# Altium schematic symbol library CONNECTORS.SchLib: 71 symbols
Pins are listed as number, name and electrical type; pins without a type are passive.

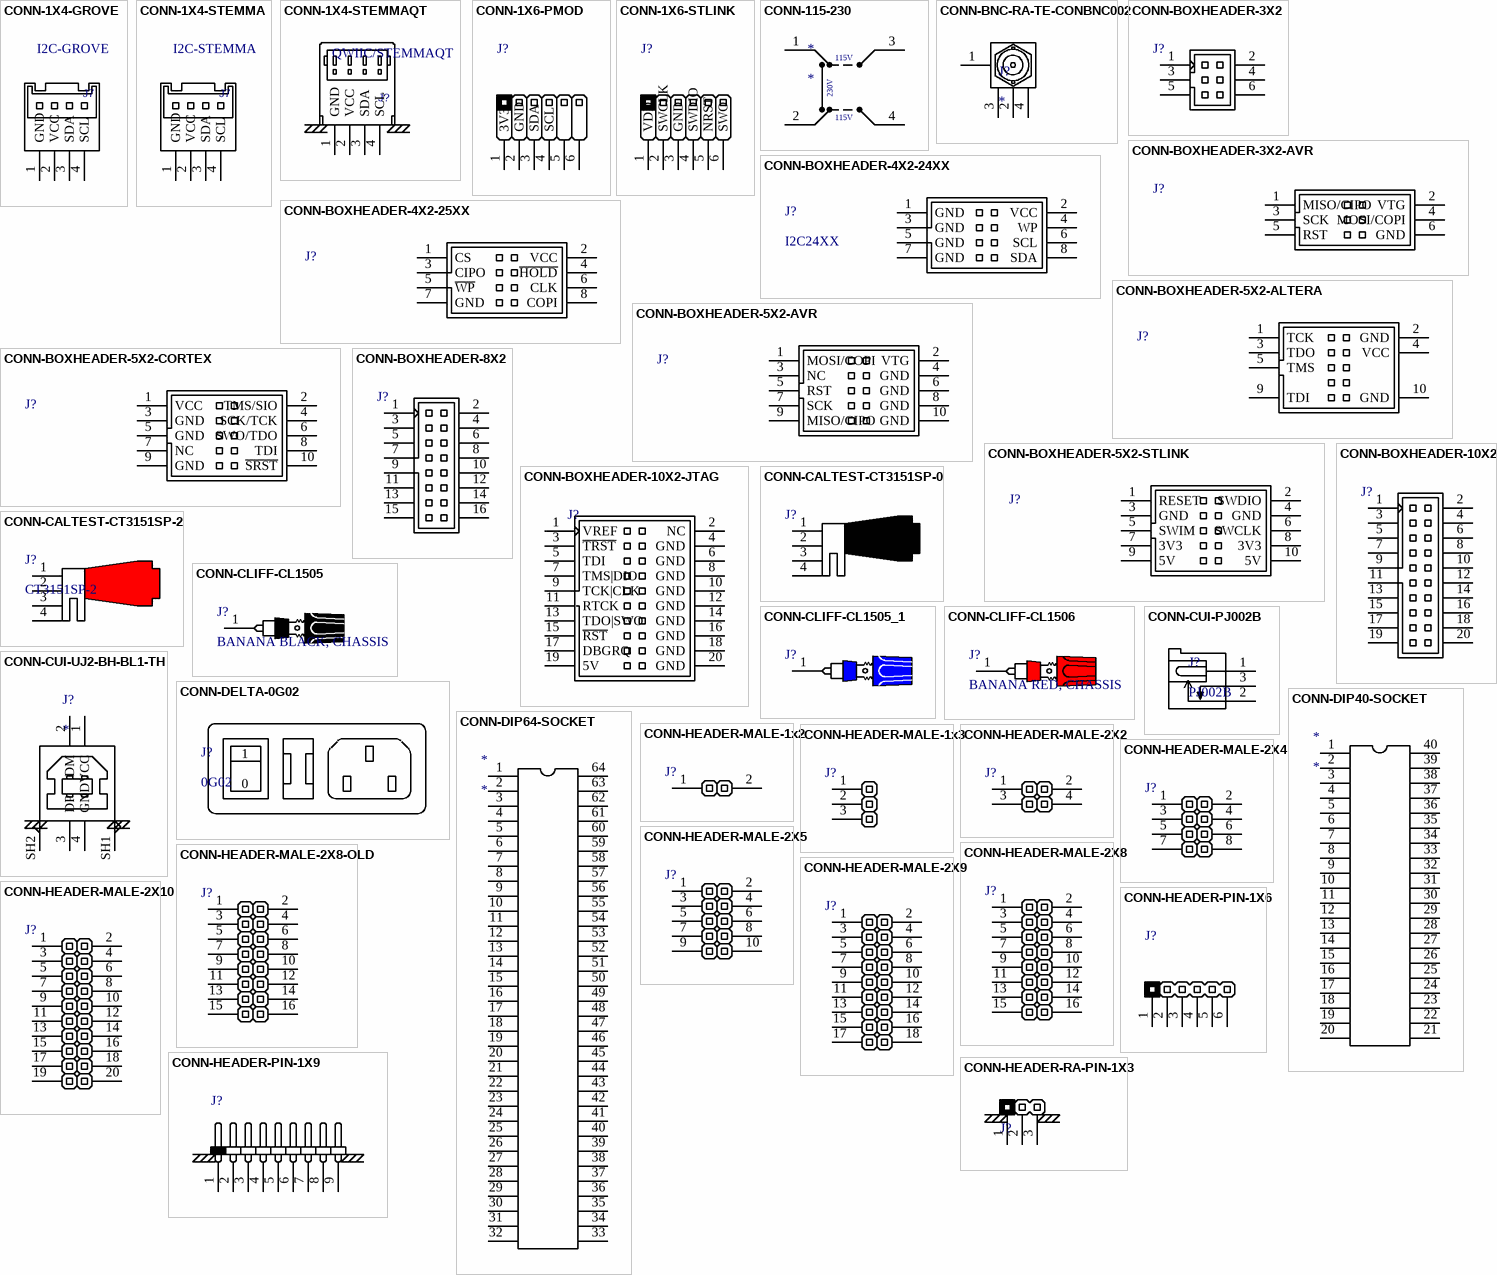
[diagram p0: symbols CONN-1X4-GROVE to CONN-HEADER-RA-PIN-1X3]

## CONN-1X4-GROVE
designator J7, comment I2C-GROVE
P/N: SM04B-SRSS-TB(LF)(SN); LCSC: C160404
footprint JST_SH_SM04B-SRSS-TB_1x04-1MP_P1.00mm_Horizontal
pins: 1 GND, 2 VCC, 3 SDA, 4 SCL

## CONN-1X4-STEMMA
designator J7, comment I2C-STEMMA
P/N: SM04B-SRSS-TB(LF)(SN); LCSC: C160404
footprint JST_SH_SM04B-SRSS-TB_1x04-1MP_P1.00mm_Horizontal
pins: 1 GND, 2 VCC, 3 SDA, 4 SCL

## CONN-1X4-STEMMAQT
designator J?, comment QWIIC/STEMMAQT
P/N: SM04B-SRSS-TB(LF)(SN); LCSC: C160404
footprint JST_SH_SM04B-SRSS-TB_1x04-1MP_P1.00mm_Horizontal
pins: 1 GND, 2 VCC, 3 SDA, 4 SCL

## CONN-1X6-PMOD
designator J?, comment PMOD  (value not drawn)
CONN,PINHEADER,1X6,2.45MM,VERT,GOLD
footprint HEADER-1X6
pins: 1 3V3, 2 GND, 3 SDA, 4 SCL, 5, 6

## CONN-1X6-STLINK
designator J?, comment STLINK  (value not drawn)
CONN,PINHEADER,1X6,2.45MM,VERT,GOLD
footprint HEADER-1X6
pins: 1 VDD, 2 SWCLK, 3 GND, 4 SWDIO, 5 NRST, 6 SWO

## CONN-115-230
designator *
pins: 1, 2, 3, 4
text: 115V; 230V

## CONN-BNC-RA-TE-CONBNC002
designator J?
footprint CONN-BNC-RA-TE-CONBNC002
pins: 1, 2, 3, 4

## CONN-BOXHEADER-3X2
designator J?, comment BOXHEADER-3X2  (value not drawn)
pins: 1 +, 2 -, 3 -, 4 -, 5 -, 6 -

## CONN-BOXHEADER-3X2-AVR
designator J?, comment AVR6  (value not drawn)
pins: 1 MISO/CIPO, 2 VTG, 3 SCK, 4 MOSI/COPI, 5 RST, 6 GND

## CONN-BOXHEADER-4X2-24XX
designator J?, comment I2C24XX
pins: 1 GND, 2 VCC, 3 GND, 4 WP, 5 GND, 6 SCL, 7 GND, 8 SDA

## CONN-BOXHEADER-4X2-25XX
designator J?, comment SPI25CXX  (value not drawn)
pins: 1 CS, 2 VCC, 3 CIPO, 4 ~{HOLD}, 5 ~{WP}, 6 CLK, 7 GND, 8 COPI

## CONN-BOXHEADER-5X2-ALTERA
designator J?, comment ALTERA  (value not drawn)
CONN,BOXHEADER,2X5,ALTERA JTAG PINOUT
footprint CONNECTOR GENERIC-BOXHEADER-2X5
pins: 1 TCK, 2 GND, 3 TDO, 4 VCC, 5 TMS, 9 TDI, 10 GND

## CONN-BOXHEADER-5X2-AVR
designator J?, comment AVR10  (value not drawn)
pins: 1 MOSI/COPI, 2 VTG, 3 NC, 4 GND, 5 RST, 6 GND, 7 SCK, 8 GND, 9 MISO/CIPO, 10 GND

## CONN-BOXHEADER-5X2-CORTEX
designator J?, comment CORTEX  (value not drawn)
pins: 1 VCC, 2 TMS/SIO, 3 GND, 4 SCK/TCK, 5 GND, 6 SWO/TDO, 7 NC, 8 TDI, 9 GND, 10 ~{SRST}

## CONN-BOXHEADER-5X2-STLINK
designator J?, comment STLINK  (value not drawn)
footprint CONNECTOR GENERIC-BOXHEADER-2X5
pins: 1 RESET, 2 SWDIO, 3 GND, 4 GND, 5 SWIM, 6 SWCLK, 7 3V3, 8 3V3, 9 5V, 10 5V

## CONN-BOXHEADER-8X2
designator J?, comment BOXHEADER-8X2  (value not drawn)
LCSC: C429961
footprint CONNECTOR GENERIC-BOXHEADER-2X10
pins: 1 +, 2 -, 3 -, 4 -, 5 -, 6 -, 7 -, 8 -, 9 -, 10 -, 11 -, 12 -, 13 -, 14 -, 15 -, 16 -

## CONN-BOXHEADER-10X2
designator J?, comment BOXHEADER-10X2  (value not drawn)
LCSC: C429961
footprint CONNECTOR GENERIC-BOXHEADER-2X10
pins: 1 +, 2 -, 3 -, 4 -, 5 -, 6 -, 7 -, 8 -, 9 -, 10 -, 11 -, 12 -, 13 -, 14 -, 15 -, 16 -, 17 -, 18 -, 19 -, 20 -

## CONN-BOXHEADER-10X2-JTAG
designator J?, comment BOXHEADER-10X2-JTAG  (value not drawn)
pins: 1 VREF, 2 NC, 3 ~{TRST}, 4 GND, 5 TDI, 6 GND, 7 TMS|DIO, 8 GND, 9 TCK|CLK, 10 GND, 11 RTCK, 12 GND, 13 TDO|SWO, 14 GND, 15 ~{RST}, 16 GND, 17 DBGRQ, 18 GND, 19 5V, 20 GND

## CONN-CALTEST-CT3151SP-0
designator J?, comment CT3151SP-0  (value not drawn)
CONNECTOR,BANANA SAFETY SOCKET,BLACK,CALTEST, CT3151SP-0; Manufacturer 1: CALTEST; Manufacturer Part Number 1: CT3151SP-0
footprint CONN-CALTEST-CT3151SP-0
pins: 1, 2, 3, 4

## CONN-CALTEST-CT3151SP-2
designator J?, comment CT3151SP-2
CONNECTOR,BANANA SAFETY SOCKET,RED,CALTEST, CT3151SP-2; Manufacturer 1: CALTEST; Manufacturer Part Number 1: CT3151SP-2
footprint CONN-CALTEST-CT3151SP-2
pins: 1, 2, 3, 4

## CONN-CLIFF-CL1505
designator J?, comment BANANA BLACK, CHASSIS
CONNECTOR,BANANA BINDING POST,BLACK,CLIFF CL15XX; Manufacturer 1: CLIFF ELECTRONICS; Manufacturer Part Number 1: CL1505; DIGIKEY: 4654-CL1505-ND
pins: 1

## CONN-CLIFF-CL1505_1
designator J?, comment CONNECTOR,BANANA,BLUE,CHASSIS,CLIFF  (value not drawn)
pins: 1

## CONN-CLIFF-CL1506
designator J?, comment BANANA RED, CHASSIS
CONNECTOR,BANANA BINDING POST,RED,CLIFF CL15XX; Manufacturer 1: CLIFF ELECTRONICS; Manufacturer Part Number 1: CL1506; DIGIKEY: 4654-CL1506-ND
pins: 1

## CONN-CUI-PJ002B
designator J?, comment PJ002B
CONN,DCPOWER,BARREL,CUI,PJ002B; Manufacturer 1: XKB Connection; Manufacturer Part Number 1: DC-005-5A-2.5; LCSC: C381115
footprint CONN-CUI-PJ-002B (CONN,BARREL JACK)
pins: 1, 2, 3

## CONN-CUI-UJ2-BH-BL1-TH
designator J?
CONN,USB2.0,B,RA,BLUE; LCSC: C720549
footprint CONN-CUI-UJ2-BH-BL1-TH
pins: 1 VCC, 2 DM, 3 DP, 4 GND, SH1 NO, SH2 NO

## CONN-DELTA-0G02
designator J?, comment 0G02  (mechanical)
CONN,POWER,IEC,SWITCH,FUSE ASSEMBLY,PANELMOUNT
text: 1; 0

## CONN-DIP40-SOCKET
designator *  (no BOM)
pins: 1, 2, 3, 4, 5, 6, 7, 8, 9, 10, 11, 12, 13, 14, 15, 16, 17, 18, 19, 20, 21, 22, 23, 24, 25, 26, 27, 28, 29, 30, 31, 32, 33, 34, 35, 36, 37, 38, 39, 40

## CONN-DIP64-SOCKET
designator *  (no BOM)
footprint CONN-DIP64-SOCKET
pins: 1, 2, 3, 4, 5, 6, 7, 8, 9, 10, 11, 12, 13, 14, 15, 16, 17, 18, 19, 20, 21, 22, 23, 24, 25, 26, 27, 28, 29, 30, 31, 32, 33, 34, 35, 36, 37, 38, 39, 40, 41 33, 42 34, 43 35, 44 36, 45 37, 46 38, 47 39, 48 40, 49 33, 50 34, 51 35, 52 36, 53 37, 54 38, 55 39, 56 40, 57 33, 58 34, 59 35, 60 36, 61 37, 62 38, 63 39, 64 40

## CONN-HEADER-MALE-1x2
designator J?  (value not drawn)
CONN,HEADER,1x2,2.54mm; Manufacturer 1: CONNFLY; Manufacturer Part Number 1: DS1021-1x2SF11-B; LCSC: C7430358
footprint HEADER-GENERIC-MALE-1X2
pins: 1 +, 2 -

## CONN-HEADER-MALE-1x3
designator J?, comment BOXHEADER-2X4  (value not drawn)
CONN,HEADER,1x3,2.54mm; LCSC: C429954
footprint HEADER-GENERIC-MALE-1X3
pins: 1 +, 2 -, 3 -

## CONN-HEADER-MALE-2X2
designator J?, comment BOXHEADER-2x2  (value not drawn)
CONN,HEADER,2X2,2.54mm; LCSC: C5383103
footprint CONNECTOR-GENERIC-PINHEADER-2X2 (CONNECTOR GENERIC-PINHEADER-2X2)
pins: 1 +, 2 -, 3 -, 4 -

## CONN-HEADER-MALE-2X4
designator J?, comment BOXHEADER-2X4  (value not drawn)
CONN,HEADER,2X4,2.54mm; LCSC: C42431809
footprint CONNECTOR-GENERIC-PINHEADER-2X4 (CONNECTOR GENERIC-PINHEADER-2X4)
pins: 1 +, 2 -, 3 -, 4 -, 5 -, 6 -, 7 -, 8 -

## CONN-HEADER-MALE-2X5
designator J?, comment BOXHEADER-3X2  (value not drawn)
CONN,HEADER,2X5,2.54mm; LCSC: C42431802
footprint CONNECTOR-GENERIC-PINHEADER-2X5 (CONNECTOR GENERIC-PINHEADER-2X5)
pins: 1 +, 2 -, 3 -, 4 -, 5 -, 6 -, 7 -, 8 -, 9 -, 10 -

## CONN-HEADER-MALE-2X8
designator J?, comment BOXHEADER-3X2  (value not drawn)
CONN,HEADER,2X8,2.54mm; LCSC: C42431826
footprint CONNECTOR-GENERIC-PINHEADER-2X8 (CONNECTOR GENERIC-PINHEADER-2X8)
pins: 1 +, 2 -, 3 -, 4 -, 5 -, 6 -, 7 -, 8 -, 9 -, 10 -, 11 -, 12 -, 13 -, 14 -, 15 -, 16 -

## CONN-HEADER-MALE-2X8-OLD
designator J?, comment BOXHEADER-3X2  (value not drawn)
pins: 1 +, 2 -, 3 -, 4 -, 5 -, 6 -, 7 -, 8 -, 9 -, 10 -, 11 -, 12 -, 13 -, 14 -, 15 -, 16 -

## CONN-HEADER-MALE-2X9
designator J?, comment BOXHEADER-3X2  (value not drawn)
CONN,HEADER,2X9,2.54mm
pins: 1 +, 2 -, 3 -, 4 -, 5 -, 6 -, 7 -, 8 -, 9 -, 10 -, 11 -, 12 -, 13 -, 14 -, 15 -, 16 -, 17 -, 18 -

## CONN-HEADER-MALE-2X10
designator J?, comment BOXHEADER-3X2  (value not drawn)
CONN,HEADER,2X10,2.54mm; LCSC: C5383109
footprint CONNECTOR-GENERIC-PINHEADER-2X10 (CONNECTOR GENERIC-PINHEADER-2X10)
pins: 1 +, 2 -, 3 -, 4 -, 5 -, 6 -, 7 -, 8 -, 9 -, 10 -, 11 -, 12 -, 13 -, 14 -, 15 -, 16 -, 17 -, 18 -, 19 -, 20 -

## CONN-HEADER-PIN-1X6
designator J?  (value not drawn)
CONN,PINHEADER,1X6,2.45MM,VERT,GOLD
footprint HEADER-1X6
pins: 1 +, 2 +, 3 +, 4 +, 5 +, 6 +

## CONN-HEADER-PIN-1X9
designator J?  (value not drawn)
CONN,PINHEADER,1X9,2.45MM,VERT,GOLD
footprint HEADER-1X6
pins: 1 +, 2 +, 3 +, 4 +, 5 +, 6 +, 7 +, 8 +, 9 +

## CONN-HEADER-RA-PIN-1X3
designator J?, comment CONN-HEADER-PIN-1X3-254-RA  (value not drawn)
footprint HEADER-1X3-245-RA
pins: 1 +, 2 +, 3 +

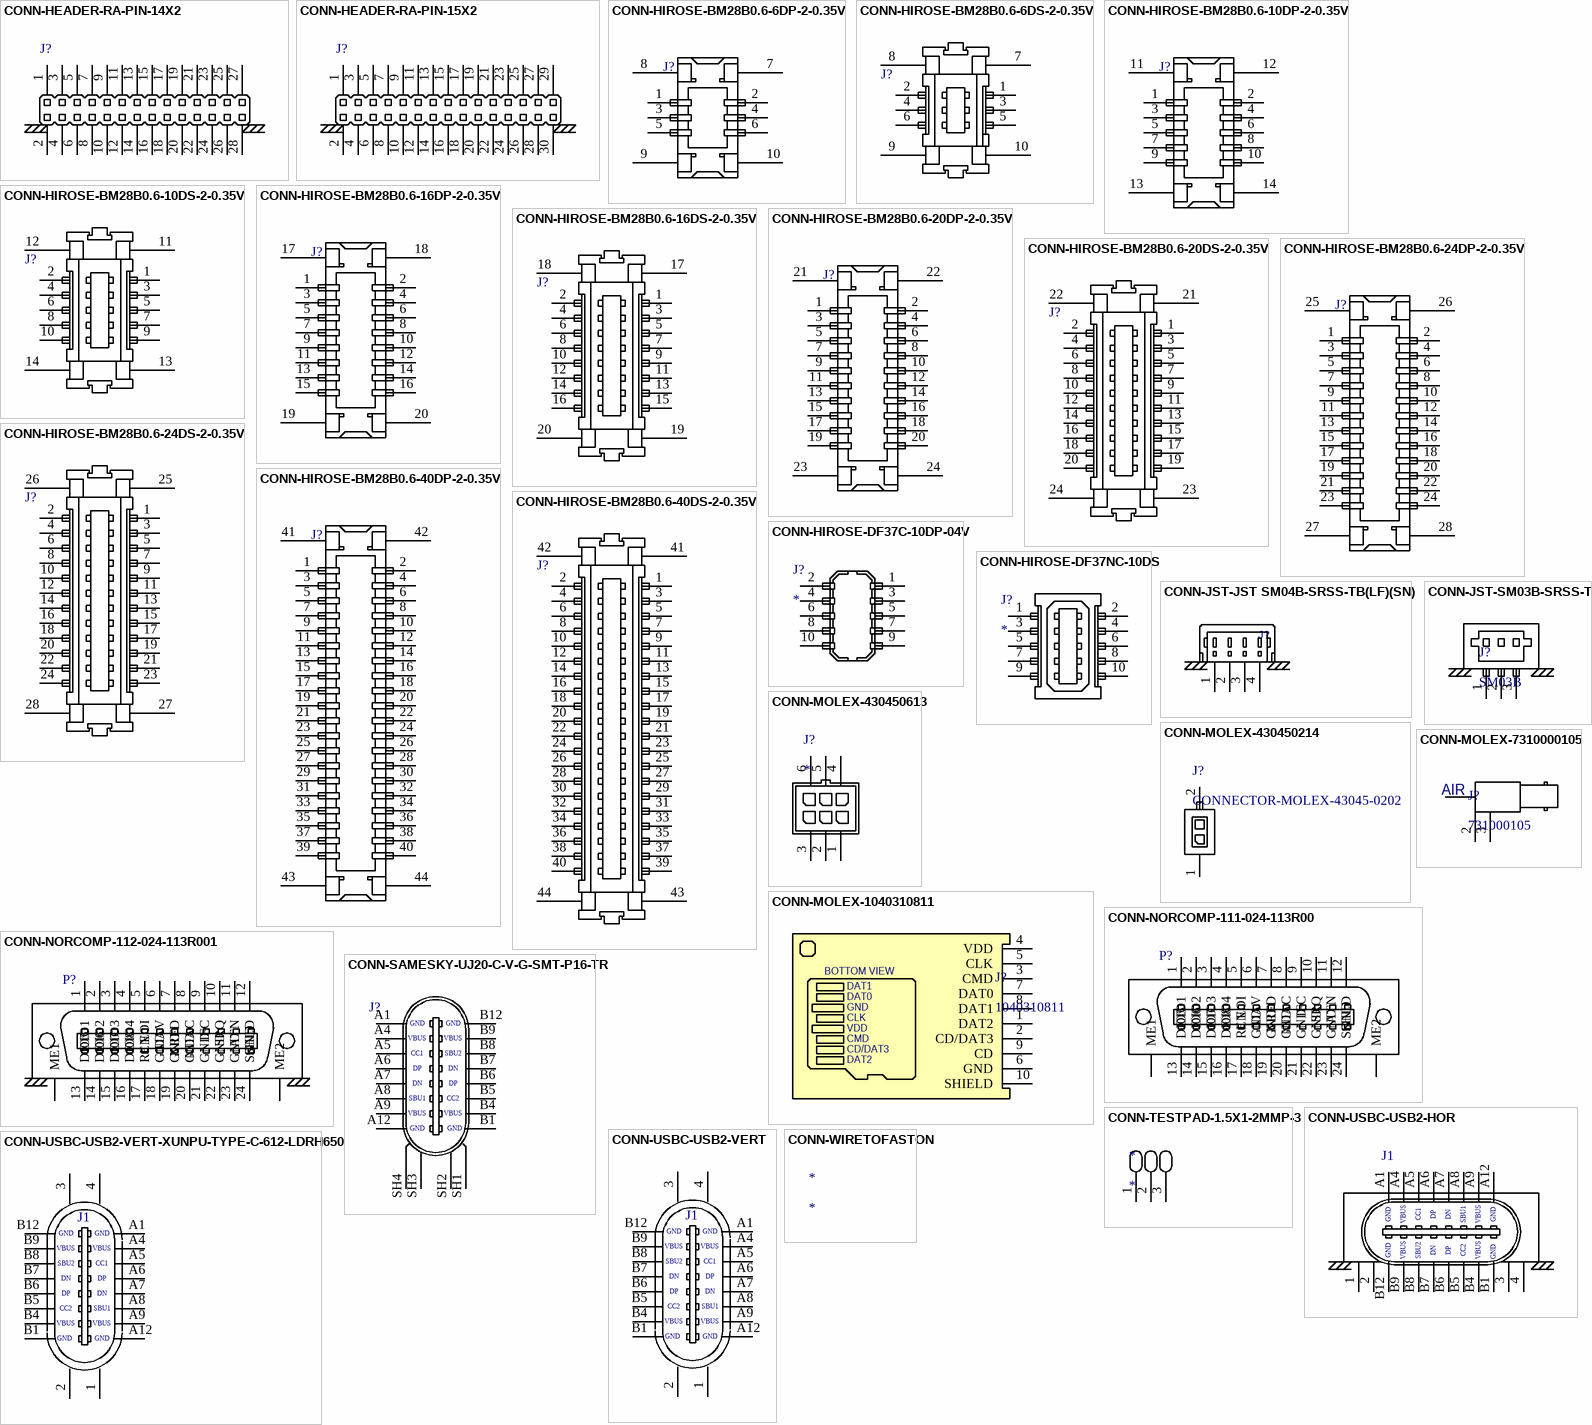
[diagram p1: symbols CONN-HEADER-RA-PIN-14X2 to CONN-WIRETOFASTON]

## CONN-HEADER-RA-PIN-14X2
designator J?  (value not drawn)
footprint HEADER-2X14-RA
pins: 1 +, 2 -, 3 -, 4 -, 5 -, 6 -, 7 +, 8 -, 9 -, 10 -, 11 -, 12 -, 13 +, 14 -, 15 -, 16 -, 17 -, 18 -, 19 +, 20 -, 21 -, 22 -, 23 -, 24 -, 25 +, 26 -, 27 -, 28 -

## CONN-HEADER-RA-PIN-15X2
designator J?  (value not drawn)
footprint HEADER-2X14-RA
pins: 1 +, 2 -, 3 -, 4 -, 5 -, 6 -, 7 +, 8 -, 9 -, 10 -, 11 -, 12 -, 13 +, 14 -, 15 -, 16 -, 17 -, 18 -, 19 +, 20 -, 21 -, 22 -, 23 -, 24 -, 25 +, 26 -, 27 -, 28 -, 29 -, 30 -

## CONN-HIROSE-BM28B0.6-6DP-2-0.35V
designator J?  (value not drawn)
pins: 1, 2, 3, 4, 5, 6, 7 PWR 2, 8 PWR 1, 9 PWR 3, 10 PWR 4

## CONN-HIROSE-BM28B0.6-6DS-2-0.35V
designator J?  (value not drawn)
pins: 1, 2, 3, 4, 5, 6, 7 PWR 1, 8 PWR 2, 9 PWR 4, 10 PWR 3

## CONN-HIROSE-BM28B0.6-10DP-2-0.35V
designator J?  (value not drawn)
pins: 1, 2, 3, 4, 5, 6, 7, 8, 9, 10, 11 (power), 12 (power), 13 (power), 14 (power)

## CONN-HIROSE-BM28B0.6-10DS-2-0.35V
designator J?  (value not drawn)
pins: 1, 2, 3, 4, 5, 6, 7, 8, 9, 10, 11 (power), 12 (power), 13 (power), 14 (power)

## CONN-HIROSE-BM28B0.6-16DP-2-0.35V
designator J?  (value not drawn)
pins: 1, 2, 3, 4, 5, 6, 7, 8, 9, 10, 11 (power), 12 (power), 13 (power), 14 (power), 15 (power), 16 (power), 17 (power), 18 (power), 19 (power), 20 (power)

## CONN-HIROSE-BM28B0.6-16DS-2-0.35V
designator J?  (value not drawn)
pins: 1, 2, 3, 4, 5, 6, 7, 8, 9, 10, 11 (power), 12 (power), 13 (power), 14 (power), 15 (power), 16 (power), 17 (power), 18 (power), 19 (power), 20 (power)

## CONN-HIROSE-BM28B0.6-20DP-2-0.35V
designator J?  (value not drawn)
pins: 1, 2, 3, 4, 5, 6, 7, 8, 9, 10, 11 (power), 12 (power), 13 (power), 14 (power), 15 (power), 16 (power), 17 (power), 18 (power), 19 (power), 20 (power), 21 PWR 1, 22 PWR 2, 23 PWR 3, 24 PWR 4

## CONN-HIROSE-BM28B0.6-20DS-2-0.35V
designator J?  (value not drawn)
pins: 1, 2, 3, 4, 5, 6, 7, 8, 9, 10, 11 (power), 12 (power), 13 (power), 14 (power), 15 (power), 16 (power), 17 (power), 18 (power), 19 (power), 20 (power), 21 PWR 1, 22 PWR 2, 23 PWR 3, 24 PWR 4

## CONN-HIROSE-BM28B0.6-24DP-2-0.35V
designator J?  (value not drawn)
pins: 1, 2, 3, 4, 5, 6, 7, 8, 9, 10, 11 (power), 12 (power), 13 (power), 14 (power), 15 (power), 16 (power), 17 (power), 18 (power), 19 (power), 20 (power), 21 (power), 22 (power), 23 (power), 24 (power), 25 (power), 26 (power), 27 (power), 28 (power)

## CONN-HIROSE-BM28B0.6-24DS-2-0.35V
designator J?  (value not drawn)
pins: 1, 2, 3, 4, 5, 6, 7, 8, 9, 10, 11 (power), 12 (power), 13 (power), 14 (power), 15 (power), 16 (power), 17, 18, 19 (power), 20 (power), 21 (power), 22 (power), 23 (power), 24 (power), 25 (power), 26 (power), 27 (power), 28 (power)

## CONN-HIROSE-BM28B0.6-40DP-2-0.35V
designator J?  (value not drawn)
pins: 1, 2, 3, 4, 5, 6, 7, 8, 9, 10, 11 (power), 12 (power), 13 (power), 14 (power), 15 (power), 16 (power), 17 (power), 18 (power), 19 (power), 20 (power), 21, 22, 23, 24, 25, 26, 27, 28, 29, 30, 31 (power), 32 (power), 33 (power), 34 (power), 35 (power), 36 (power), 37 (power), 38 (power), 39 (power), 40 (power), 41, 42, 43, 44

## CONN-HIROSE-BM28B0.6-40DS-2-0.35V
designator J?  (value not drawn)
pins: 1, 2, 3, 4, 5, 6, 7, 8, 9, 10, 11 (power), 12 (power), 13 (power), 14 (power), 15 (power), 16 (power), 17 (power), 18 (power), 19 (power), 20 (power), 21, 22, 23, 24, 25, 26, 27, 28, 29, 30, 31 (power), 32 (power), 33 (power), 34 (power), 35 (power), 36 (power), 37 (power), 38 (power), 39 (power), 40 (power), 41 PWR 1, 42 PWR 2, 43 PWR 3, 44 PWR 4

## CONN-HIROSE-DF37C-10DP-04V
designator J?
LCSC: C324719; Parameter 1: *
footprint CONN-HIROSE-DF37NC-10DS
pins: 1, 2, 3, 4, 5, 6, 7, 8, 9, 10

## CONN-HIROSE-DF37NC-10DS
designator J?
LCSC: C324718
footprint CONN-HIROSE-DF37NC-10DS
footprint CONN-HIROSE-DF37NC-10DS
pins: 1, 2, 3, 4, 5, 6, 7, 8, 9, 10

## CONN-JST-JST SM04B-SRSS-TB(LF)(SN)
designator J?, comment SM04B-SRSS  (value not drawn)
P/N: SM04B-SRSS-TB(LF)(SN); LCSC: C160404
footprint JST_SH_SM04B-SRSS-TB_1x04-1MP_P1.00mm_Horizontal
pins: 1 Pin_1, 2 Pin_2, 3 Pin_3, 4 Pin_4

## CONN-JST-SM03B-SRSS-TB
designator J?, comment SM03B
CONN,1X3,1MM,RA,SMD,JST,SM03B; Supplier 1: Future Electronics; Supplier Part Number 1: 4483905; LCSC: C160403
footprint CONN-JST-SM03B-SRSS-TB
pins: 1, 2, 3

## CONN-MOLEX-430450214
designator J?, comment CONNECTOR-MOLEX-43045-0202
CONN,1X2,MOLEX, MICROFIT,VERT
footprint CONN-MOLEX-430450214
pins: 1, 2

## CONN-MOLEX-430450613
designator J?
CONN,2X3,MOLEX MICROFIT,TH,VERT
footprint CONN-MOLEX-430450613
pins: 1, 2, 3, 4, 5, 6

## CONN-MOLEX-1040310811
designator J?, comment 1040310811
CONN,MICROSD,MOLEX 1040310811; Supplier 1: Arrow Electronics; Supplier Part Number 1: 1040310811
pins: 1 DAT2, 2 CD/DAT3, 3 CMD, 4 VDD, 5 CLK, 6 GND, 7 DAT0, 8 DAT1, 9 CD, 10 SHIELD
text: BOTTOM VIEW

## CONN-MOLEX-7310000105
designator J?, comment 731000105
CONN,BNC,RA; Manufacturer 1: MOLEX; Manufacturer Part Number 1: 731000-0105; DIGIKEY: WM5524-ND; MOUSER: 538-73100-0105
footprint CONN-MOLEX-7310000105
pins: 2 VIN, 3 VIN
text: AIR

## CONN-NORCOMP-111-024-113R00
designator P?  (value not drawn)
CONN,GPIB,24P,VERT,TH; Supplier 1: Digikey; Supplier Part Number 1: 1024RMA-ND
footprint CONN-NORCOMP-111-024-113L001 (GPIB MALE VERT)
pins: 1 DIO1, 2 DIO2, 3 DIO3, 4 DIO4, 5 EOI, 6 DAV, 7 NRFD, 8 NDAC, 9 IFC, 10 SRQ, 11 ATN, 12 SHLD, 13 DIO5, 14 DIO6, 15 DIO7, 16 DIO8, 17 REN, 18 GND, 19 GND, 20 GND, 21 GND, 22 GND, 23 GND, 24 SGND, ME1, ME2

## CONN-NORCOMP-112-024-113R001
designator P?  (value not drawn)
CONN,GPIB,24P,RIGHT ANGLE,TH; Manufacturer 1: NORCOMP; Manufacturer Part Number 1: 112-024-113R001; Supplier 1: Digikey; Supplier Part Number 1: 1024RMA-ND; MOUSER: 636-112-024-113R001
footprint CONN-NORCOMP-112-024-113R001 (GPIB MALE RA)
pins: 1 DIO1, 2 DIO2, 3 DIO3, 4 DIO4, 5 EOI, 6 DAV, 7 NRFD, 8 NDAC, 9 IFC, 10 SRQ, 11 ATN, 12 SHLD, 13 DIO5, 14 DIO6, 15 DIO7, 16 DIO8, 17 REN, 18 GND, 19 GND, 20 GND, 21 GND, 22 GND, 23 GND, 24 SGND, ME1, ME2

## CONN-SAMESKY-UJ20-C-V-G-SMT-P16-TR
designator J?  (value not drawn)
MFR: SAMESKY; MP: UJ20-C-V-G-SMT-P16-TR; Package: None; Price: None; Value: *; Availability: Unavailable; LCSC: C2686963; MPN: UJ20-C-V-G-SMT-P16-TR
footprint CONN-SAMESKY-UJ20-C-V-G-SMT-P16-TR
pins: A1, A4, A5, A6, A7, A8, A9, A12, B1, B4, B5, B6, B7, B8, B9, B12, SH1 SHIELD, SH2 SHIELD, SH3 SHIELD, SH4 SHIELD
text: GND; VBUS; CC1; SBU2; DP; DN; SBU1; CC2

## CONN-TESTPAD-1.5X1-2MMP-3
designator *  (no BOM)
footprint CONN-TESTPAD-1.5X1-2MMP-3 (TESTPAD, 1.5 X 1 MM , 2MM PITCH , 3 PADS)
pins: 1, 2, 3

## CONN-USBC-USB2-HOR
designator J1  (value not drawn)
CONN,USB-C,16P,RA,TH,8.94X9.17; Manufacturer 1: GCT; Manufacturer Part Number 1: USB4085-GF-A; Supplier 1: Digikey; Supplier Part Number 1: 2073-USB4085-GF-ACT-ND; LCSC: C7095263; MOUSER: 640-USB4085-GF-A
footprint CONN-GCT-USB4085
pins: 1, 2, 3, 4, A1, A4, A5, A6, A7, A8, A9, A12, B1, B4, B5, B6, B7, B8, B9, B12
text: GND; VBUS; CC1; DP; DN; SBU1; SBU2; CC2

## CONN-USBC-USB2-VERT
designator J1  (value not drawn)
CONN,USB-C,16P,VERTICAL,TH
footprint CONN-CUI-UJ20-C-V-C-3-SMT-TR
pins: 1, 2, 3, 4, A1, A4, A5, A6, A7, A8, A9, A12, B1, B4, B5, B6, B7, B8, B9, B12
text: GND; VBUS; SBU2; CC1; DN; DP; CC2; SBU1

## CONN-USBC-USB2-VERT-XUNPU-TYPE-C-612-LDRH650
designator J1, comment TYPE-C-612-LDRH650  (value not drawn)
CONN,USB-C,16P,VERTICAL,TH; Manufacturer 1: XUNPU; LCSC: C25011963; Manufacturer Part Number 1: TYPE-C-612-LDRH650
footprint CONN-USBC-USB2-VERT-XUNPU-TYPE-C-612-LDRH650
pins: 1, 2, 3, 4, A1, A4, A5, A6, A7, A8, A9, A12, B1, B4, B5, B6, B7, B8, B9, B12
text: GND; VBUS; SBU2; CC1; DN; DP; CC2; SBU1

## CONN-WIRETOFASTON
designator *

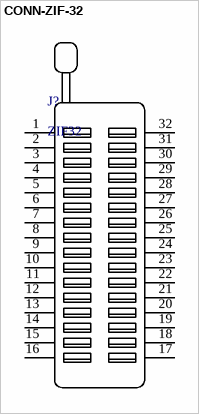
[diagram p2: symbol CONN-ZIF-32]

## CONN-ZIF-32
designator J?, comment ZIF32
pins: 1, 2, 3, 4, 5, 6, 7, 8, 9, 10, 11, 12, 13, 14, 15, 16, 17, 18, 19, 20, 21, 22, 23, 24, 25, 26, 27, 28, 29, 30, 31, 32